# Altium integrated library LM2577S-ADJ.IntLib: 1 symbol
Pins are listed as number, name and electrical type; pins without a type are passive.

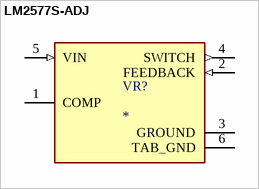
[diagram p0: symbol LM2577S-ADJ]

## LM2577S-ADJ
designator VR?
SIMPLE SWITCHERÂ® 3.5V to 40V, 3A Low Component Count Step-Up Regulator 5-DDPAK/TO-263 -40 to 125; MF: Texas Instruments; MP: LM2577S-ADJ; SnapEDA_Link: https://www.snapeda.com/parts/LM2577S-ADJ/Texas+Instruments/view-part/?ref=snap; Package: TO-263-5 Texas Instruments; Value: *; Check_prices: https://www.snapeda.com/parts/LM2577S-ADJ/Texas+Instruments/view-part/?ref=eda
footprint TO170P1524X483-6N
pins: 1 COMP, 2 FEEDBACK (in), 3 GROUND (power), 4 SWITCH (out), 5 VIN (in), 6 TAB_GND (power)